# Altium footprint library 34AA04T-IMUY.PcbLib: 3 footprints
Each footprint in its own frame and in the unit in brackets; x right, y up, seen from the top. Pads: shape width x height; smd on the part's side, far side on the other; paste and mask are expansions set on the pad; w line width, h text height; cw(c..) or ccw(c..) is an arc to the next point about the centre after c.
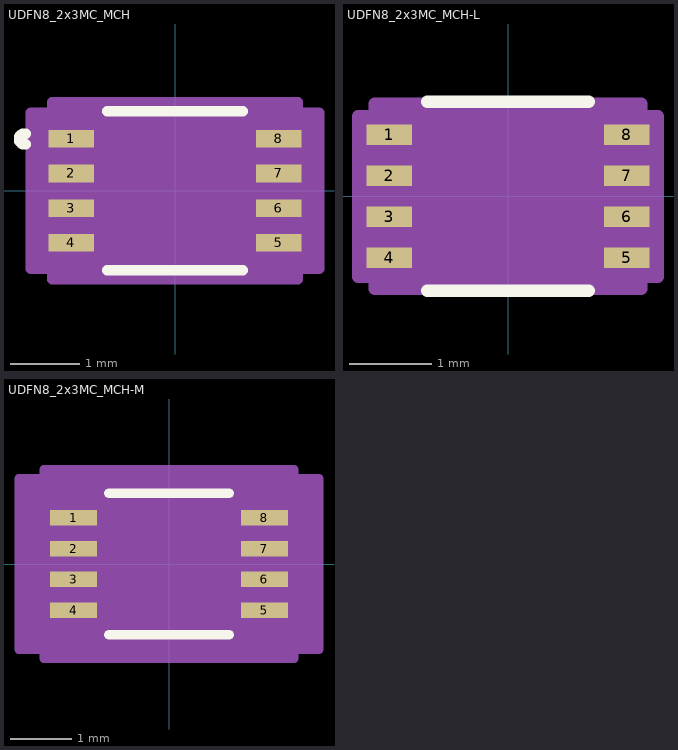
[diagram p0: the footprints below, top view; thin cyan lines are the x and y axes]

## UDFN8_2x3MC_MCH [mil]
pads (8):
  rect 26x10 smd paste+0 mask+0: 1(-59.04,29.53) 2(-59.04,9.84) 3(-59.04,-9.84) 4(-59.04,-29.53) 5(59.04,-29.53) 6(59.04,-9.84) 7(59.04,9.84) 8(59.04,29.53)
Top Overlay:
  lines w6: -85.14,26.62 cw(c-85.88,29.53) -85.14,32.43 ; -38.66,-45.35 38.66,-45.35 ; -38.66,45.35 38.66,45.35
  text ".Designator" at -137.5,-25 h50
Mechanical 13:
  lines w1: -12,40.35 ccw(c0,40.35) 12,40.35 ; -60.04,-40.35 60.04,-40.35 60.04,40.35 -60.04,40.35 -60.04,-40.35
  text ".Designator" at -137.5,-25 h50
Mechanical 15:
  region: -70.04,-44.53 -82.04,-44.53 -82.04,44.53 -70.04,44.53 -70.04,50.35 70.04,50.35 70.04,44.53 82.04,44.53 82.04,-44.53 70.04,-44.53 70.04,-50.35 -70.04,-50.35
  lines w6: -82.04,-44.53 -82.04,44.53 -70.04,44.53 -70.04,50.35 70.04,50.35 70.04,44.53 82.04,44.53 82.04,-44.53 70.04,-44.53 70.04,-50.35 -70.04,-50.35 -70.04,-44.53 -82.04,-44.53
3D body "UDFN8_2x3MC_MCH.step": height 18.74, standoff 0, extent -60.04,-40.35 60.04,40.35

## UDFN8_2x3MC_MCH-L [mil]
pads (8):
  rect 22x10 smd paste+0 mask+0: 1(-57.04,29.53) 2(-57.04,9.84) 3(-57.04,-9.84) 4(-57.04,-29.53) 5(57.04,-29.53) 6(57.04,-9.84) 7(57.04,9.84) 8(57.04,29.53)
Top Overlay:
  lines w6: -38.66,-45.35 38.66,-45.35 ; -38.66,45.35 38.66,45.35
  text ".Designator" at -137.5,-25 h50
Mechanical 13:
  lines w1: -12,40.35 ccw(c0,40.35) 12,40.35 ; -60.04,-40.35 60.04,-40.35 60.04,40.35 -60.04,40.35 -60.04,-40.35
  text ".Designator" at -137.5,-25 h50
Mechanical 15:
  region: -64.04,-38.53 -72.04,-38.53 -72.04,38.53 -64.04,38.53 -64.04,44.35 64.04,44.35 64.04,38.53 72.04,38.53 72.04,-38.53 64.04,-38.53 64.04,-44.35 -64.04,-44.35
  lines w6: -72.04,-38.53 -72.04,38.53 -64.04,38.53 -64.04,44.35 64.04,44.35 64.04,38.53 72.04,38.53 72.04,-38.53 64.04,-38.53 64.04,-44.35 -64.04,-44.35 -64.04,-38.53 -72.04,-38.53
3D body "UDFN8_2x3MC_MCH.step": height 18.74, standoff 0, extent -60.04,-40.35 60.04,40.35

## UDFN8_2x3MC_MCH-M [mil]
pads (8):
  rect 30x10 smd paste+0 mask+0: 1(-61.04,29.53) 2(-61.04,9.84) 3(-61.04,-9.84) 4(-61.04,-29.53) 5(61.04,-29.53) 6(61.04,-9.84) 7(61.04,9.84) 8(61.04,29.53)
Top Overlay:
  lines w6: -38.66,-45.35 38.66,-45.35 ; -38.66,45.35 38.66,45.35
  text ".Designator" at -137.5,-25 h50
Mechanical 13:
  lines w1: -12,40.35 ccw(c0,40.35) 12,40.35 ; -60.04,-40.35 60.04,-40.35 60.04,40.35 -60.04,40.35 -60.04,-40.35
  text ".Designator" at -137.5,-25 h50
Mechanical 15:
  region: -80.04,-54.53 -96.04,-54.53 -96.04,54.53 -80.04,54.53 -80.04,60.35 80.04,60.35 80.04,54.53 96.04,54.53 96.04,-54.53 80.04,-54.53 80.04,-60.35 -80.04,-60.35
  lines w6: -96.04,-54.53 -96.04,54.53 -80.04,54.53 -80.04,60.35 80.04,60.35 80.04,54.53 96.04,54.53 96.04,-54.53 80.04,-54.53 80.04,-60.35 -80.04,-60.35 -80.04,-54.53 -96.04,-54.53
3D body "UDFN8_2x3MC_MCH.step": height 18.74, standoff 0, extent -60.04,-40.35 60.04,40.35